# Altium footprint library TE 282834-8.PCBLIB: 1 footprints
Each footprint in its own frame and in the unit in brackets; x right, y up, seen from the top. Pads: shape width x height; smd on the part's side, far side on the other; paste and mask are expansions set on the pad; w line width, h text height; cw(c..) or ccw(c..) is an arc to the next point about the centre after c.
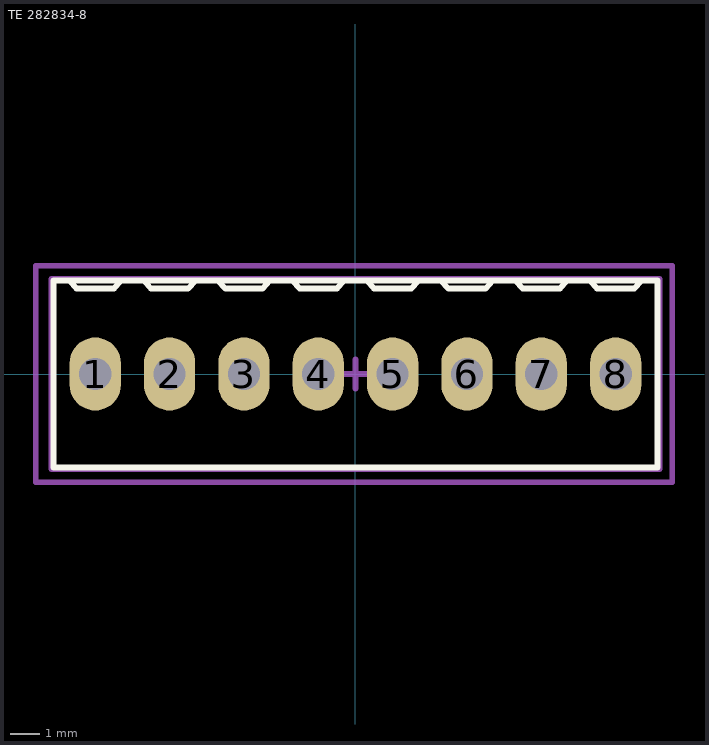
[diagram p0: the footprint, top view; thin cyan lines are the x and y axes]

## TE 282834-8 [mm]
height 10
pads (8):
  oval 1.75x2.5 hole 1.1: 1(-8.89,0) 2(-6.35,0) 3(-3.81,0) 4(-1.27,0) 5(1.27,0) 6(3.81,0) 7(6.35,0) 8(8.89,0)
Top Overlay:
  lines w0.2: -9.779,3.2 -9.525,2.921 -8.255,2.921 -8.001,3.2 ; -7.239,3.2 -6.985,2.921 -5.715,2.921 -5.461,3.2 ; -4.699,3.2 -4.445,2.921 -3.175,2.921 -2.921,3.2 ; -2.159,3.2 -1.905,2.921 -0.635,2.921 -0.381,3.2 ; 0.381,3.2 0.635,2.921 1.905,2.921 2.159,3.2 ; 2.921,3.2 3.175,2.921 4.445,2.921 4.699,3.2 ; 5.461,3.2 5.715,2.921 6.985,2.921 7.239,3.2 ; 8.001,3.2 8.255,2.921 9.525,2.921 9.779,3.2 ; -10.32,-3.2 -10.32,3.2 10.32,3.2 10.32,-3.2 -10.22,-3.2 -10.32,-3.2
Mechanical 13:
  lines w0.2: -10.39,-3.25 10.39,-3.25 10.39,3.25 -10.39,3.25 -10.39,-3.25
Mechanical 15:
  lines w0.2: -0.5,0 0.5,0 ; 0,-0.5 0,0.5 ; -10.92,-3.7 -10.92,-3.3 -10.92,3.7 10.82,3.7 10.82,-2.9 10.82,-3.7 -10.92,-3.7
3D body "TE Term Block 8port 282834-8-c-3d.STEP": height 10, standoff -3.4, extent -10.39,-3.25 10.39,3.25